# Altium schematic symbol library CONN-SPE_ERF8-013-05-5-DV-X-X.SchLib: 1 symbol
Pins are listed as number, name and electrical type; pins without a type are passive.

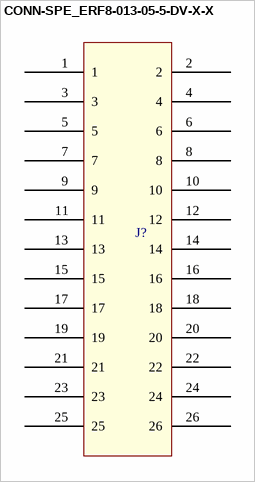
[diagram p0: symbol CONN-SPE_ERF8-013-05-5-DV-X-X]

## CONN-SPE_ERF8-013-05-5-DV-X-X
designator J?  (value not drawn)
pins: 1, 2, 3, 4, 5, 6, 7, 8, 9, 10, 11, 12, 13, 14, 15, 16, 17, 18, 19, 20, 21, 22, 23, 24, 25, 26